# Altium footprint library custom.PcbLib: 10 footprints
Each footprint in its own frame and in the unit in brackets; x right, y up, seen from the top. Pads: shape width x height; smd on the part's side, far side on the other; paste and mask are expansions set on the pad; w line width, h text height; cw(c..) or ccw(c..) is an arc to the next point about the centre after c.
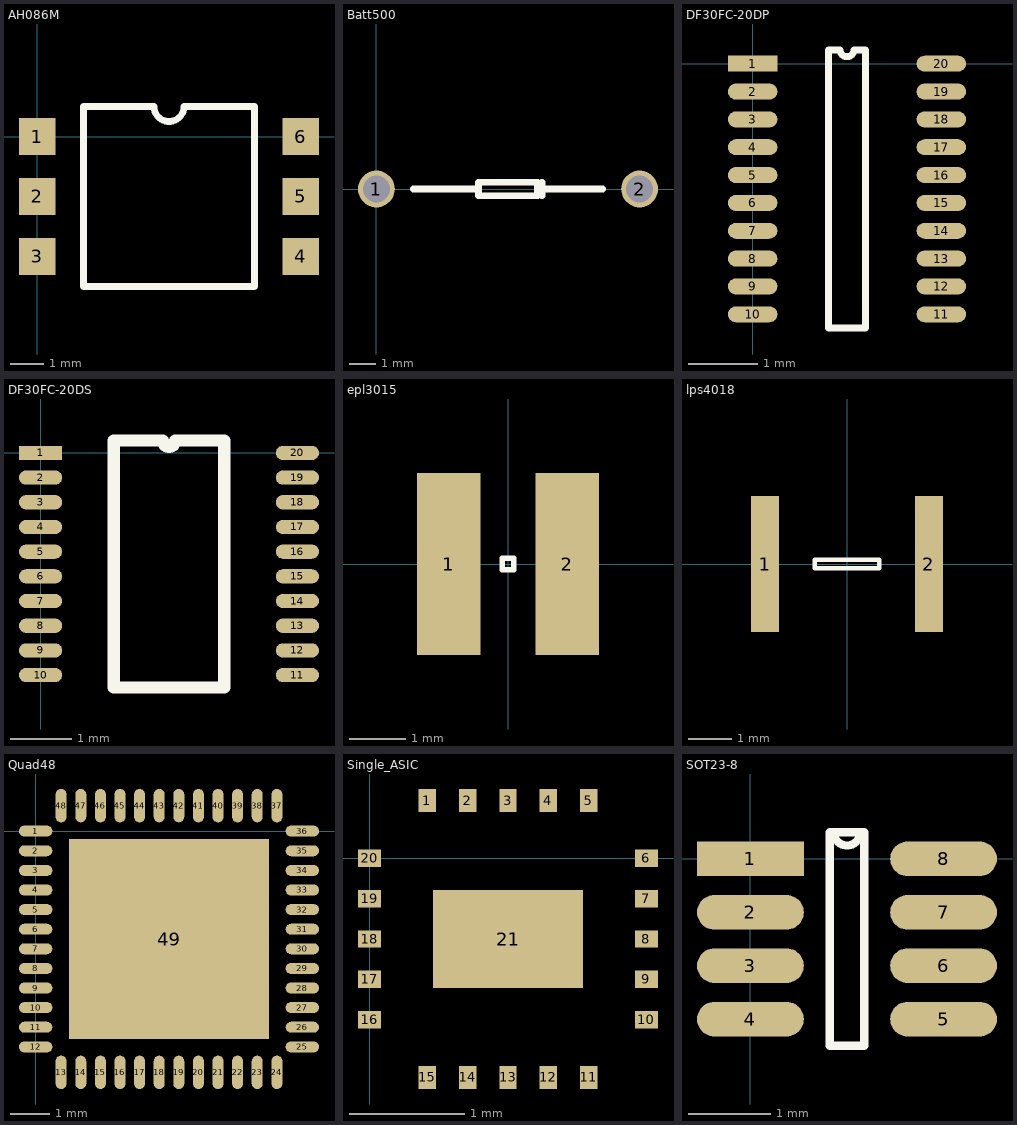
[diagram p0: the footprints below, top view; thin cyan lines are the x and y axes]

## AH086M [mm]
pads (6):
  rect 1.1x1.1 smd: 1(0,0) 2(0,-1.8) 3(0,-3.6) 4(7.9,-3.6) 5(7.9,-1.8) 6(7.9,0)
Top Overlay:
  lines w0.2: 1.385,-4.5 1.385,0.9 3.5,0.9 ccw(c3.95,0.9) 4.4,0.9 6.515,0.9 6.515,-4.5 1.385,-4.5

## Batt500 [mil]
pads (2):
  round 55 hole 40: 1(0,0) 2(393,0)
Top Overlay:
  lines w10: 55,0 152.5,0 ; 240.5,0 338,0 ; 247.33,-10 247.33,10 ; 152.5,0 152.5,-10 240.5,-10 240.5,10 152.5,10 152.5,0

## DF30FC-20DP [mm]
pads (20):
  rect 0.71x0.23 smd: 1(0,0)
  oval 0.71x0.23 smd: 2(0,-0.4) 3(0,-0.8) 4(0,-1.2) 5(0,-1.6) 6(0,-2) 7(0,-2.4) 8(0,-2.8) 9(0,-3.2) 10(0,-3.6) 11(2.71,-3.6) 12(2.71,-3.2) 13(2.71,-2.8) 14(2.71,-2.4) 15(2.71,-2) 16(2.71,-1.6) 17(2.71,-1.2) 18(2.71,-0.8) 19(2.71,-0.4) 20(2.71,0)
Top Overlay:
  lines w0.1: 1.09,-3.8 1.62,-3.8 1.62,0.2 1.455,0.2 cw(c1.355,0.2) 1.255,0.2 1.09,0.2 1.09,-3.8

## DF30FC-20DS [mm]
pads (20):
  rect 0.7x0.23 smd: 1(0,0)
  oval 0.7x0.23 smd: 2(0,-0.4) 3(0,-0.8) 4(0,-1.2) 5(0,-1.6) 6(0,-2) 7(0,-2.4) 8(0,-2.8) 9(0,-3.2) 10(0,-3.6) 11(4.16,-3.6) 12(4.16,-3.2) 13(4.16,-2.8) 14(4.16,-2.4) 15(4.16,-2) 16(4.16,-1.6) 17(4.16,-1.2) 18(4.16,-0.8) 19(4.16,-0.4) 20(4.16,0)
Top Overlay:
  lines w0.2: 1.185,-3.8 1.185,0.2 1.98,0.2 ccw(c2.08,0.2) 2.18,0.2 2.975,0.2 2.975,-3.8 1.185,-3.8

## epl3015 [mm]
pads (2):
  rect 1.12x3.2 smd: 1(-1.04,0) 2(1.04,0)
Top Overlay:
  lines w0.1: -0.1,-0.1 -0.1,0 -0.1,0.1 0.1,0.1 0.1,-0.1 -0.1,-0.1

## lps4018 [mm]
pads (2):
  rect 0.638x3.12 smd: 1(-1.881,0) 2(1.881,0)
Top Overlay:
  lines w0.1: -0.74,-0.1 -0.74,0 -0.74,0.1 0.74,0.1 0.74,-0.1 -0.74,-0.1

## PCBComponent_1 [mm]

## Quad48 [mm]
pads (49):
  oval 0.85x0.28 smd: 1(0,0) 2(0,-0.5) 3(0,-1) 4(0,-1.5) 5(0,-2) 6(0,-2.5) 7(0,-3) 8(0,-3.5) 9(0,-4) 10(0,-4.5) 11(0,-5) 12(0,-5.5) 25(6.8,-5.5) 26(6.8,-5) 27(6.8,-4.5) 28(6.8,-4) 29(6.8,-3.5) 30(6.8,-3) 31(6.8,-2.5) 32(6.8,-2) 33(6.8,-1.5) 34(6.8,-1) 35(6.8,-0.5) 36(6.8,0)
  oval 0.28x0.85 smd: 13(0.65,-6.15) 14(1.15,-6.15) 15(1.65,-6.15) 16(2.15,-6.15) 17(2.65,-6.15) 18(3.15,-6.15) 19(3.65,-6.15) 20(4.15,-6.15) 21(4.65,-6.15) 22(5.15,-6.15) 23(5.65,-6.15) 24(6.15,-6.15) 37(6.15,0.65) 38(5.65,0.65) 39(5.15,0.65) 40(4.65,0.65) 41(4.15,0.65) 42(3.65,0.65) 43(3.15,0.65) 44(2.65,0.65) 45(2.15,0.65) 46(1.65,0.65) 47(1.15,0.65) 48(0.65,0.65)
  rect 5.1x5.1 smd: 49(3.4,-2.75)
Top Overlay:
  lines w0.1: 1.01,-5.14 5.79,-5.14 5.79,-0.36 2.02,-0.36 1.01,-1.37 1.01,-5.14

## Single_ASIC [mm]
pads (21):
  rect 0.15x0.2 smd: 1(0.5,0.5) 2(0.85,0.5) 3(1.2,0.5) 4(1.55,0.5) 5(1.9,0.5) 11(1.9,-1.9) 12(1.55,-1.9) 13(1.2,-1.9) 14(0.85,-1.9) 15(0.5,-1.9)
  rect 0.2x0.15 smd: 6(2.4,0) 7(2.4,-0.35) 8(2.4,-0.7) 9(2.4,-1.05) 10(2.4,-1.4) 16(0,-1.4) 17(0,-1.05) 18(0,-0.7) 19(0,-0.35) 20(0,0)
  rect 1.3x0.85 smd: 21(1.2,-0.7)

## SOT23-8 [mm]
pads (8):
  rect 1.3x0.42 smd: 1(0,0)
  oval 1.3x0.42 smd: 2(0,-0.65) 3(0,-1.3) 4(0,-1.95) 5(2.35,-1.95) 6(2.35,-1.3) 7(2.35,-0.65) 8(2.35,0)
Top Overlay:
  lines w0.1: 0.965,-2.275 0.965,0.325 1.337,0.325 cw(c1.175,0.325) 1.012,0.325 1.385,0.325 1.385,-2.275 0.965,-2.275